# Altium schematic symbol library 0402WGF3903TCE1_0402WGF3903TCE.SCHLIB: 1 symbol
Pins are listed as number, name and electrical type; pins without a type are passive.

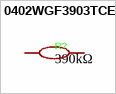
[diagram p0: symbol 0402WGF3903TCE]

## 0402WGF3903TCE
designator R?, comment 390kΩ
390k Resistor; Manufacturer: UNI-ROYAL(厚声); Symbol: 0402WGF3903TCE; Add into BOM: yes; Tolerance: ±1%; Temperature Coefficient: ±100ppm/℃; Device: 0402WGF3903TCE; LCSC Part Name: 390kΩ ±1% 62.5mW 厚膜电阻; Supplier Part: C25782; Manufacturer Part: 0402WGF3903TCE; Supplier Footprint: 0402; JLCPCB Part Class: Extended Part; Datasheet: https://atta.szlcsc.com/upload/public/pdf/source/20200306/C422600_1E6D84923E4A46A82E41ADD87F860B5C.pdf; Supplier: LCSC; Convert to PCB: yes; Type: Thick Film Resistors; Operating Temperature Range: -55℃~+155℃; Value: 390kΩ
footprint R0402
3D model R0402_L1.0-W0.5-H0.4
pins: 1, 2